# Altium schematic symbol library KESE-D_K1A2-2.SchLib: 1 symbol
Pins are listed as number, name and electrical type; pins without a type are passive.

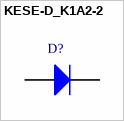
[diagram p0: symbol KESE-D_K1A2-2]

## KESE-D_K1A2-2
designator D?
pins: 1 K, 2 A